# Altium footprint library NCP1450ASN27T1G.PcbLib: 1 footprints
Each footprint in its own frame and in the unit in brackets; x right, y up, seen from the top. Pads: shape width x height; smd on the part's side, far side on the other; paste and mask are expansions set on the pad; w line width, h text height; cw(c..) or ccw(c..) is an arc to the next point about the centre after c.
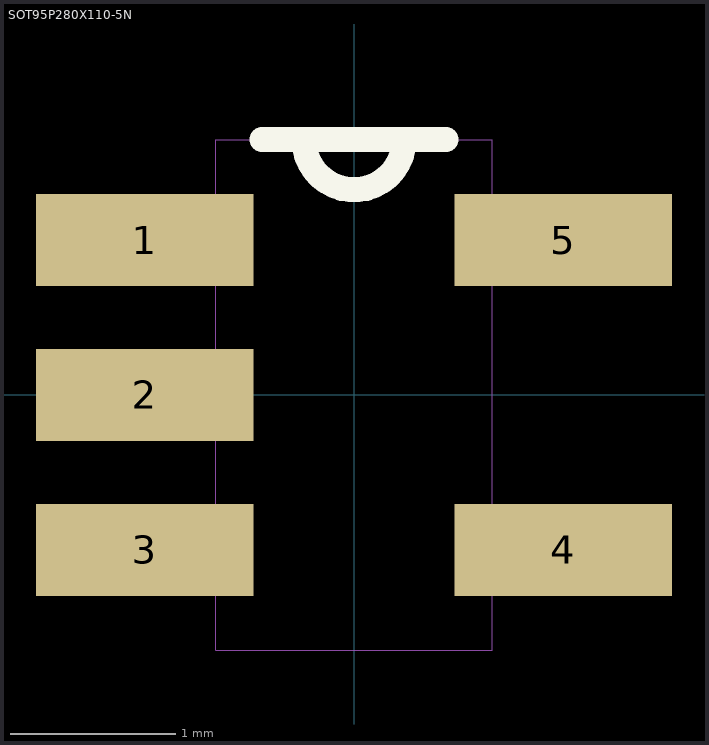
[diagram p0: the footprint, top view; thin cyan lines are the x and y axes]

## SOT95P280X110-5N [mil]
pads (5):
  rect 52x22 smd: 1(-50,37) 2(-50,0) 3(-50,-37) 4(50,-37) 5(50,37)
Top Overlay:
  lines w6: -22,61 -12,61 ; 22,61 12,61 ; -12,61 ccw(c0,61) 12,61 ; -12,61 12,61
Mechanical 1:
  lines w0: -33,-47 -59,-47 -59,-28 -33,-28 ; -33,-47 -33,-28 ; -33,-47 -33,-61 33,-61 33,-47 ; -33,-28 -33,-10 ; -33,-10 -59,-10 -59,10 -33,10 ; -33,-10 -33,10 ; -33,10 -33,28 ; -33,28 -59,28 -59,47 -33,47 ; -33,28 -33,47 ; -33,47 -33,61 -12,61 ; -12,61 ccw(c0,61) 12,61 ; -12,61 12,61 ; 12,61 33,61 33,47 ; 33,-47 59,-47 59,-28 33,-28 ; 33,-47 33,-28 ; 33,-28 33,28 ; 33,28 59,28 59,47 33,47 ; 33,28 33,47